# Altium footprint library TPS22917DBVR.PcbLib: 1 footprints
Each footprint in its own frame and in the unit in brackets; x right, y up, seen from the top. Pads: shape width x height; smd on the part's side, far side on the other; paste and mask are expansions set on the pad; w line width, h text height; cw(c..) or ccw(c..) is an arc to the next point about the centre after c.
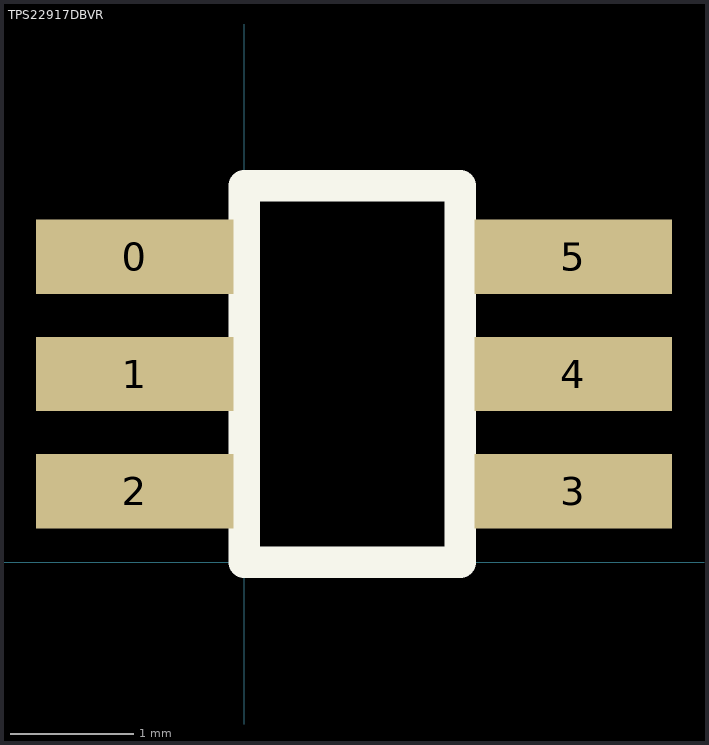
[diagram p0: the footprint, top view; thin cyan lines are the x and y axes]

## TPS22917DBVR [mm]
pads (6):
  rect 1.6x0.6 smd: 0(-0.889,2.474) 1(-0.889,1.524) 2(-0.889,0.574) 3(2.667,0.574) 4(2.667,1.524) 5(2.667,2.474)
Top Overlay:
  lines w0.254: 0,0 1.75,0 1.75,3.05 0,3.05 0,0